# Altium integrated library TAOGLAS TFM.120A v1.0.IntLib: 1 symbol
Pins are listed as number, name and electrical type; pins without a type are passive.

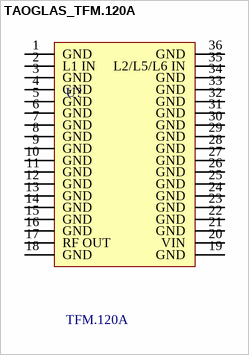
[diagram p0: symbol TAOGLAS_TFM.120A]

## TAOGLAS_TFM.120A
designator U?, comment TFM.120A
Surface mount GNSS front-end module covering L1+B1+G1/L2/L5+L-band; MFG: Taoglas; Temp_High: +85C; Temp_Low: -40C; ComponentLibStatus: Created; MFGPN: TFM.120A; RoHS: RoHS Compliant; Datasheet: https://www.taoglas.com/datasheets/TFM.120A.pdf; Version: 1.0; FootprintLibStatus: Created
footprint TAOGLAS_TFM.120A (Surface mount GNSS front-end module covering L1+B1+G1/L2/L5+L-band)
pins: 1 GND, 2 L1 IN, 3 GND, 4 GND, 5 GND, 6 GND, 7 GND, 8 GND, 9 GND, 10 GND, 11 GND, 12 GND, 13 GND, 14 GND, 15 GND, 16 GND, 17 RF OUT, 18 GND, 19 GND, 20 VIN, 21 GND, 22 GND, 23 GND, 24 GND, 25 GND, 26 GND, 27 GND, 28 GND, 29 GND, 30 GND, 31 GND, 32 GND, 33 GND, 34 GND, 35 L2/L5/L6 IN, 36 GND